# EAGLE library part PTN5100 (library m_ic-comm)
PTN5100 USB Type-C power delivery PHY and protocol IC Description PTN5100 is a single port USB Type-C Power Delivery (PD) PHY and Protocol IC that provides Type-C Configuration channel interface and USB PD Physical and Protocol layer functions to a System PD Port Policy Controller (Policy Engine and Device Policy Manager, Alternate mode controller). It complies with USB PD[1] and Type-C[2] specifications and delta updates of PD spec. Features Complies with USB PD[1] and USB Type-C[2] specifications. Supports implementation of various system PD roles: P, P/C, C, C/P Supports Type-C role configurability Type-C role (DFP, UFP, DRP) is Non-Volatile Memory (NVM) and register programmable based on OEM platform requirements Implements UFP role pull down behavior to handle dead battery condition on battery powered platforms Supports register programmable and variable ‘Rp’ indication (for DRP/DFP usage and accessory detection) Implements 'Rd' indication on CC pin (for Device side implementation) CC detection/indication scheme based on Type-C role Indication of orientation detection via CC_ORIENT pin and status register(s) Debug and Audio Accessory detection and indication in status register(s) Cooperatively works under the control of Policy controller MCU for power delivery negotiation and contract(s), Alternate mode and VDM exchanges Implements BMC (de)coding, 4B5B symbol (de)coding, CRC generation/checking, PD packet assembling/disassembling including Preamble, SOP, EOP, Good CRC response, Retries, Hard and Cable resets PD PHY and Protocol layer interface control and status update handled via SPI/I2C interface SOP* Configurability Register programmable to generate and receive SOP, SOP', SOP'-debug, SOP", SOP"-debug'' in DFP/DRP (host use case) Register programmable to receive and respond on SOP, SOP'-debug and SOP"-debug commands Supports low RON VCONN switch with enable/disable (Hi-Z) support Capable of maximum current delivery of 1 A over 2.7 V to 5.5 V Supports register programmable Forward current protection control Supports register programmable Reverse current protection Back current protection on all pins when PTN5100 is unpowered CC1 and CC2 pins are 5.5 V tolerant VBUS pin and VBUS power path MOSFET enable pins are 28 V tolerant Delivers (active LOW enable) gate control signals for PMOS Power MOSFETs on VBUS source and sink power paths Provides dedicated IO pin (CC_ORIENT) for indicating Cable/plug orientation and IO pin (DBGACC_FOUND) for indicating Debug accessory detection Delivers up to 30 mA (max) for powering Policy controller MCU Supports SPI slave interface (SPI modes 1 and 2 supported) up to 30 MHz Supports I2C slave interface standard mode (100 kHz), Fast mode (400 kHz) and Fast mode plus (1 MHz) I2C Device slave address programmable up to 3 values Supports 3.3 V or 1.8 V capable I2C-bus or SPI interface Supports register access - device configuration, control and status/interrupt interfacing through Slave I2C-bus interface Power supplies - VDD (3.3 V 10 %) or VBUS Tolerant up to 28 V on VBUS and operational up to maximum of 25 V on VBUS Operating temperature 20˚C to 85˚C ESD 8 kV HBM, 1 kV CDM Ordering Information PTN5100BS, HVQFN20 (SOT917-4) plastic thermal enhanced very thin quad flat package; no leads; 20 terminals; SPI System Interface PTN5100ABS, HVQFN20 (SOT917-4) plastic thermal enhanced very thin quad flat package; no leads; 20 terminals; I2C System Interface Octopart Search <https://octopart.com/search?q=PTN5100%3FBS*> Added 2017-03-19, based on data from NXP datasheet Rev. 1 2018-08-01.
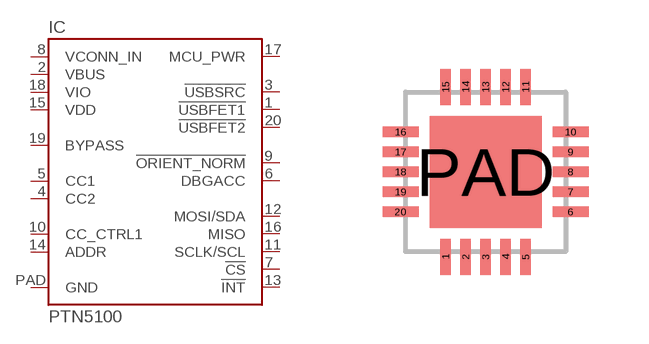
[diagram p7: symbol with the pads of HVQFN20; footprint HVQFN20]

Designator prefix IC

## PTN5100 (MANUF: NXP; PARTNUM: PTN5100?BS*; VALUE: PTN5100)  [HVQFN20]
1  !USBFET1  pas
2  VBUS  pas
3  !USBSRC  pas
4  CC2  pas
5  CC1  pas
6  DBGACC  pas
7  !CS  pas
8  VCONN_IN  pas
9  !ORIENT_NORM  pas
10  CC_CTRL1  pas
11  SCLK/SCL  pas
12  MOSI/SDA  pas
13  !INT  pas
14  ADDR  pas
15  VDD  pas
16  MISO  pas
17  MCU_PWR  pas
18  VIO  pas
19  BYPASS  pas
20  !USBFET2  pas
PAD  GND  pas

## Footprint HVQFN20 (pad centres in mm)
HVQFN20 (SOT917-4) Package Source: NXP Semiconductor PTN5100 Datasheet, August 1 2016 Added 2017-03-19
smd 0.27 x 0.9: 1 -1,-2.125; 2 -0.5,-2.125; 3 0,-2.125; 4 0.5,-2.125; 5 1,-2.125; 11 1,2.125; 12 0.5,2.125; 13 0,2.125; 14 -0.5,2.125; 15 -1,2.125
smd 0.9 x 0.27: 6 2.125,-1; 7 2.125,-0.5; 8 2.125,0; 9 2.125,0.5; 10 2.125,1; 16 -2.125,1; 17 -2.125,0.5; 18 -2.125,0; 19 -2.125,-0.5; 20 -2.125,-1
smd 2.8 x 2.8: PAD 0,0